# Altium footprint library BH1730FVC-TR.PcbLib: 3 footprints
Each footprint in its own frame and in the unit in brackets; x right, y up, seen from the top. Pads: shape width x height; smd on the part's side, far side on the other; paste and mask are expansions set on the pad; w line width, h text height; cw(c..) or ccw(c..) is an arc to the next point about the centre after c.
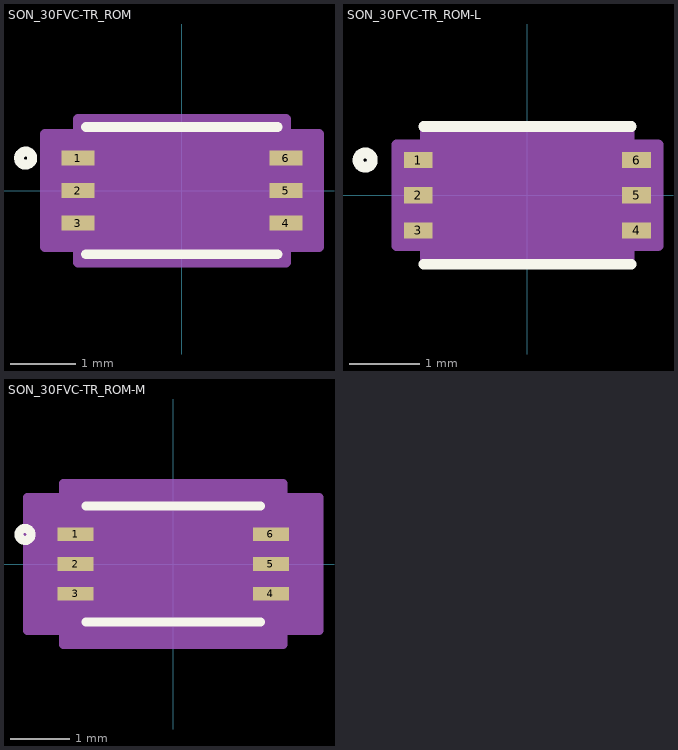
[diagram p0: the footprints below, top view; thin cyan lines are the x and y axes]

## SON_30FVC-TR_ROM [mil]
pads (6):
  rect 20x9 smd paste+0 mask+0: 1(-63,19.69) 2(-63,0) 3(-63,-19.69) 4(63,-19.69) 5(63,0) 6(63,19.69)
Top Overlay:
  circle w6: c-94.69,19.69 r4
  lines w6: -58,-38.5 58,-38.5 ; -58,38.5 58,38.5
Mechanical 13:
  circle w0: c-53,19.69 r3
  lines w0: -12,33.5 ccw(c0,33.5) 12,33.5
  lines w1: -53,-33.5 53,-33.5 53,33.5 -53,33.5 -53,-33.5
Mechanical 15:
  region: -63,-34.19 -83,-34.19 -83,34.19 -63,34.19 -63,43.5 63,43.5 63,34.19 83,34.19 83,-34.19 63,-34.19 63,-43.5 -63,-43.5
  lines w6: -83,-34.19 -83,34.19 -63,34.19 -63,43.5 63,43.5 63,34.19 83,34.19 83,-34.19 63,-34.19 63,-43.5 -63,-43.5 -63,-34.19 -83,-34.19
3D body "SON_30FVC-TR_ROM.step": height 30.12, standoff 0, extent -60.98,-33.5 60.98,33.5

## SON_30FVC-TR_ROM-L [mil]
pads (6):
  rect 16x9 smd paste+0 mask+0: 1(-61,19.69) 2(-61,0) 3(-61,-19.69) 4(61,-19.69) 5(61,0) 6(61,19.69)
Top Overlay:
  circle w6: c-90.69,19.69 r4
  lines w6: -58,-38.5 58,-38.5 ; -58,38.5 58,38.5
Mechanical 13:
  circle w0: c-53,19.69 r3
  lines w0: -12,33.5 ccw(c0,33.5) 12,33.5
  lines w1: -53,-33.5 53,-33.5 53,33.5 -53,33.5 -53,-33.5
Mechanical 15:
  region: -57,-28.19 -73,-28.19 -73,28.19 -57,28.19 -57,37.5 57,37.5 57,28.19 73,28.19 73,-28.19 57,-28.19 57,-37.5 -57,-37.5
  lines w6: -73,-28.19 -73,28.19 -57,28.19 -57,37.5 57,37.5 57,28.19 73,28.19 73,-28.19 57,-28.19 57,-37.5 -57,-37.5 -57,-28.19 -73,-28.19
3D body "SON_30FVC-TR_ROM.step": height 30.12, standoff 0, extent -60.98,-33.5 60.98,33.5

## SON_30FVC-TR_ROM-M [mil]
pads (6):
  rect 24x9 smd paste+0 mask+0: 1(-65,19.69) 2(-65,0) 3(-65,-19.69) 4(65,-19.69) 5(65,0) 6(65,19.69)
Top Overlay:
  circle w6: c-98.69,19.69 r4
  lines w6: -58,-38.5 58,-38.5 ; -58,38.5 58,38.5
Mechanical 13:
  circle w0: c-53,19.69 r3
  lines w0: -12,33.5 ccw(c0,33.5) 12,33.5
  lines w1: -53,-33.5 53,-33.5 53,33.5 -53,33.5 -53,-33.5
Mechanical 15:
  region: -73,-44.19 -97,-44.19 -97,44.19 -73,44.19 -73,53.5 73,53.5 73,44.19 97,44.19 97,-44.19 73,-44.19 73,-53.5 -73,-53.5
  lines w6: -97,-44.19 -97,44.19 -73,44.19 -73,53.5 73,53.5 73,44.19 97,44.19 97,-44.19 73,-44.19 73,-53.5 -73,-53.5 -73,-44.19 -97,-44.19
3D body "SON_30FVC-TR_ROM.step": height 30.12, standoff 0, extent -60.98,-33.5 60.98,33.5